# EAGLE library part LM5134 (library ruark2)
Low-Side Gate Driver IC Inverting, Non-Inverting 6-WSON (3x3) 7.6A
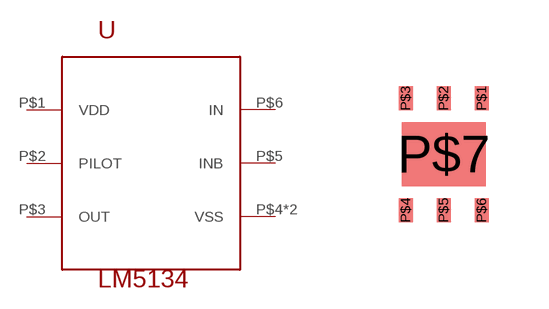
[diagram p4: symbol with the pads of WSON; footprint WSON]

Designator prefix -

## LM5134 (PARTNO: 296-40245-1-ND)  [WSON]
P$1  VDD
P$2  PILOT
P$3  OUT
P$4  VSS
P$5  INB
P$6  IN
P$7  VSS

## Footprint WSON (pad centres in mm)
smd 0.35 x 0.6: P$1 0.95,1.4; P$2 0,1.4; P$3 -0.95,1.4; P$4 -0.95,-1.4; P$5 0,-1.4; P$6 0.95,-1.4
smd 2.1 x 1.6: P$7 0,0